# Altium schematic symbol library Smart Ring Components.SchLib: 52 symbols
Pins are listed as number, name and electrical type; pins without a type are passive.

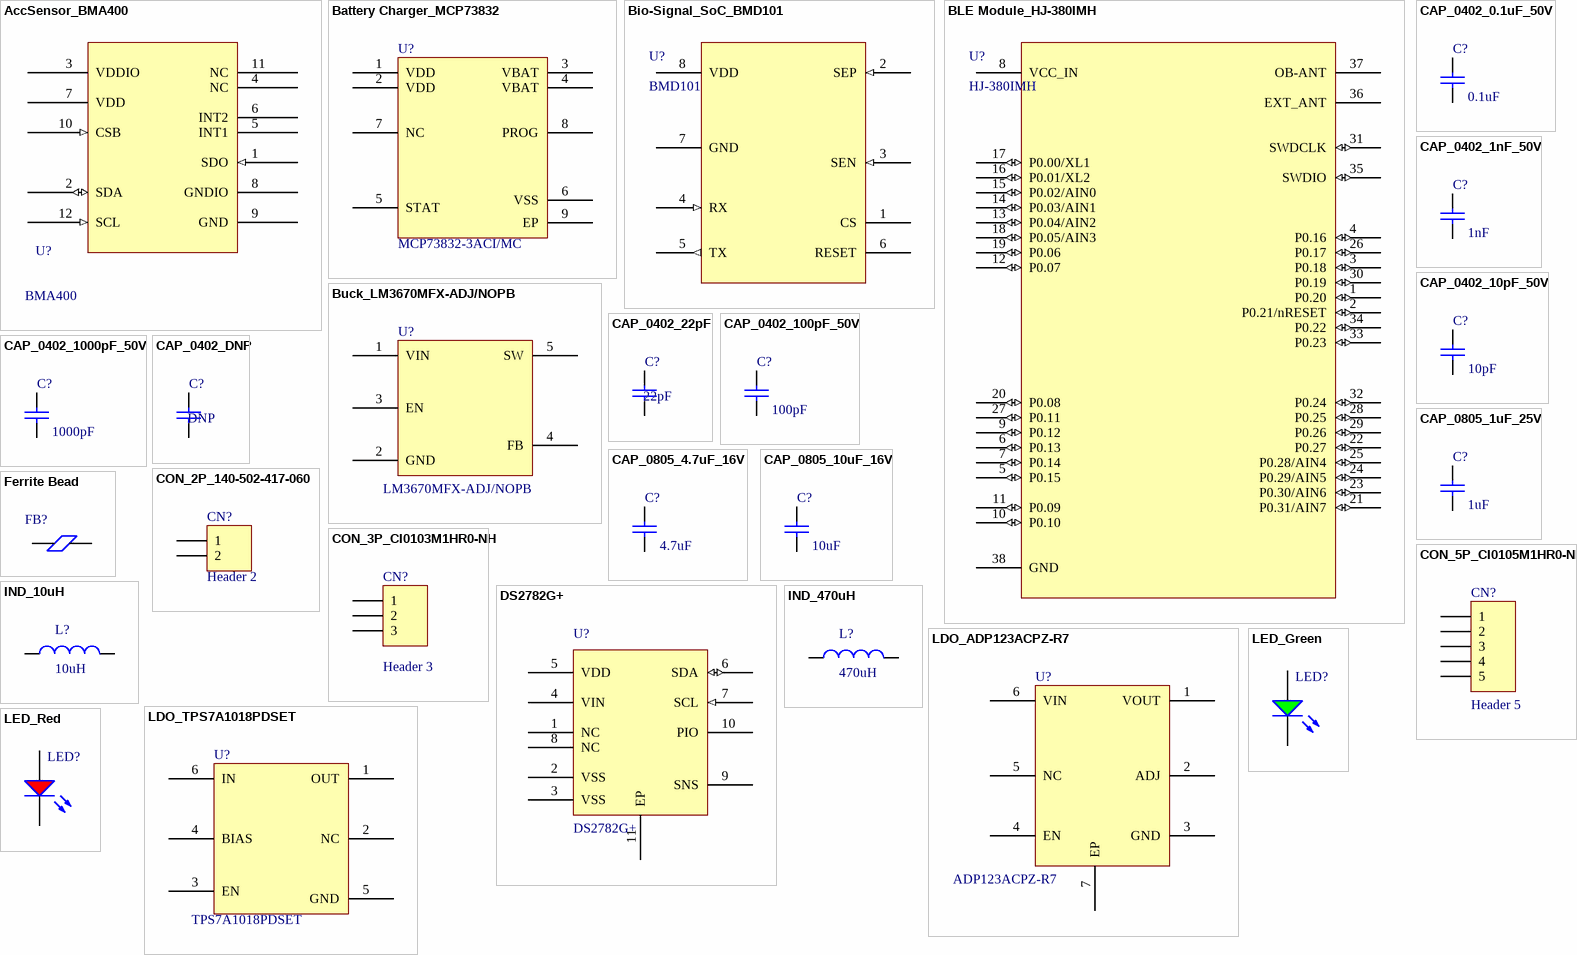
[diagram p0: symbols AccSensor_BMA400 to LED_Red]

## AccSensor_BMA400
designator U?, comment BMA400
ACCELEROMETER 2-16G 12LGA; MFR: Bosch; Value: BMA400; MPN: BMA400
footprint BMA400
pins: 1 SDO (in), 2 SDA (io), 3 VDDIO (power), 4 NC, 5 INT1, 6 INT2, 7 VDD (power), 8 GNDIO (power), 9 GND (power), 10 CSB (in), 11 NC, 12 SCL (in)

## Battery Charger_MCP73832
designator U?  MPN: MCP73832-3ACI/MC  (hidden comment: *)
IC BATT CONTRL LI-ION 1CELL 8DFN; MFR: Microchip; Package: 8-DFN (2x3)
footprint MCP73832-3ACI/MC
pins: 1 VDD (power), 2 VDD (power), 3 VBAT (power), 4 VBAT (power), 5 STAT, 6 VSS (power), 7 NC, 8 PROG, 9 EP (power)

## Bio-Signal_SoC_BMD101
designator U?, comment BMD101
Mixed Signal SoC with Integrated AFE, DSP functions and UART; MFR: NeuroSky; MPN: BMD101
footprint BMD101
pins: 1 CS, 2 SEP (in), 3 SEN (in), 4 RX (in), 5 TX (out), 6 RESET, 7 GND (power), 8 VDD (power)

## BLE Module_HJ-380IMH
designator U?, comment HJ-380IMH
Chip-scale high performance ultra small (5.5mmX6mm) ultra low power / Bluetooth 5.0 module based on Nordic nRF52832; MFR: TangShan HongJia Electronic Technology Co., Ltd; MPN: HJ-380IMH
pins: 1 P0.20 (io), 2 P0.21/nRESET (io), 3 P0.18 (io), 4 P0.16 (io), 5 P0.15 (io), 6 P0.13 (io), 7 P0.14 (io), 8 VCC_IN (power), 9 P0.12 (io), 10 P0.10 (io), 11 P0.09 (io), 12 P0.07 (io), 13 P0.04/AIN2 (io), 14 P0.03/AIN1 (io), 15 P0.02/AIN0 (io), 16 P0.01/XL2 (io), 17 P0.00/XL1 (io), 18 P0.05/AIN3 (io), 19 P0.06 (io), 20 P0.08 (io), 21 P0.31/AIN7 (io), 22 P0.27 (io), 23 P0.30/AIN6 (io), 24 P0.29/AIN5 (io), 25 P0.28/AIN4 (io), 26 P0.17 (io), 27 P0.11 (io), 28 P0.25 (io), 29 P0.26 (io), 30 P0.19 (io), 31 SWDCLK (io), 32 P0.24 (io), 33 P0.23 (io), 34 P0.22 (io), 35 SWDIO (io), 36 EXT_ANT, 37 OB-ANT, 38 GND (power)

## Buck_LM3670MFX-ADJ/NOPB
designator U?, comment LM3670MFX-ADJ/NOPB
IC REG BUCK ADJ 350MA SOT23-5; MFR: Texas Instruments; Package: SOT-23-5; MPN: LM3670MFX-ADJ/NOPB
footprint LM3670MFX-ADJ/NOPB
pins: 1 VIN (power), 2 GND (power), 3 EN, 4 FB (power), 5 SW

## CAP_0402_0.1uF_50V
designator C?, comment 0.1uF
CAP CER 0.1UF 50V X7R 0402; Alternate MFR: Samsung Electro-Mechanics; Alternate MPN: CL05B104KB54PNC; Package: 0402; Value: 0.1uF
footprint 0402C
pins: 1, 2

## CAP_0402_1nF_50V
designator C?, comment 1nF
CAP CER 1000PF 50V X7R 0402; Alternate MFR: TDK Corporation; Alternate MPN: C1005X7R1H102K050BA; Package: 0402; Value: 1nF
footprint 0402C
pins: 1, 2

## CAP_0402_10pF_50V
designator C?, comment 10pF
CAP CER 10PF 50V C0G/NP0 0402; Alternate MFR: Murata Electronics; Alternate MPN: GRT1555C1H100JA02J; Package: 0402; Value: 10pF
footprint 0402C
pins: 1, 2

## CAP_0402_22pF
designator C?, comment 22pF
CAP CER 22PF 50V C0G 0402; MFR: Generic; Alternate MFR: TDK Corporation; Alternate MPN: C1005C0G1H220J050BA; MPN: Generic; Package: 0402; Value: 22pF
footprint 0402C
pins: 1, 2

## CAP_0402_100pF_50V
designator C?, comment 100pF
CAP CER 100PF 50V C0G 0402; Alternate MFR: TDK Corporation; Alternate MPN: C1005C0G1H101J050BA; Package: 0402; Value: 100pF
footprint 0402C
pins: 1, 2

## CAP_0402_1000pF_50V
designator C?, comment 1000pF
CAP CER 1000PF 50V X7R 0402; Alternate MFR: TDK Corporation; Alternate MPN: C1005X7R1H102K050BA; Package: 0402; Value: 1000pF
footprint 0402C
pins: 1, 2

## CAP_0402_DNP
designator C?, comment DNP
CAP CER DNP 0402; MFR: Generic; MPN: Generic; Package: 0402; Value: DNP
footprint 0402C
pins: 1, 2

## CAP_0805_1uF_25V
designator C?, comment 1uF
CAP CER 1UF 25V X7R 0805; Alternate MFR: Würth Elektronik; Alternate MPN: 885012207078; Package: 0805; Value: 1uF
footprint 0805C
pins: 1, 2

## CAP_0805_4.7uF_16V
designator C?, comment 4.7uF
CAP CER MLCC 4.7uF X7R 16V  0805; Alternate MFR: Murata Electronics; Alternate MPN: GRM21BR71C475ME51K; Package: 0805; Value: 4.7uF
footprint 0805C
pins: 1, 2

## CAP_0805_10uF_16V
designator C?, comment 10uF
CAP CER 10UF 16V X7R 0805; Alternate MFR: Taiyo Yuden; Alternate MPN: EMK212BB7106MG-T; Package: 0805; Value: 10uF
footprint 0805C
pins: 1, 2

## CON_2P_140-502-417-060
designator CN?, comment Header 2
2.0MM PITCH CONNECTOR WITH 2 SUR; MFR: EDAC Inc.; MPN: 140-502-417-060
footprint 140-502-417-060
signal-integrity model Connector
pins: 1, 2

## CON_3P_CI0103M1HR0-NH
designator CN?, comment Header 3
3 POS 2.00MM(.079) SINGLE ROW SM; MFR: Cvilux USA; MPN: CI0103M1HR0-NH
footprint CI0103M1HR0-NH
signal-integrity model Connector
pins: 1, 2, 3

## CON_5P_CI0105M1HR0-NH
designator CN?, comment Header 5
5 POS 2.00MM(.079) SINGLE ROW SM; MFR: Cvilux USA; MPN: CI0105M1HR0-NH
footprint CI0105M1HR0-NH
signal-integrity model Connector
pins: 1, 2, 3, 4, 5

## DS2782G+
designator U?  MPN: DS2782G+
IC BATT MON LI-ION 1CELL 10TDFN; MFR: Maxim Integrated; Package: 10-TDFN (3x4)
footprint DS2782G+
pins: 1 NC, 2 VSS (power), 3 VSS (power), 4 VIN (power), 5 VDD (power), 6 SDA (io), 7 SCL (in), 8 NC, 9 SNS, 10 PIO, 11 EP (power)

## Ferrite Bead
designator FB?  (value not drawn)
CHIP BEAD 600 OHM 0402 300mA; MFR: Walsin; MPN: WLBD1005K2U601TP; Package: 0402
footprint 0402R
pins: 1 VREF, 2 VREF

## IND_10uH
designator L?, comment 10uH
WE-PMI POWER MULTILAYER INDUCTOR; MFR: Würth Elektronik; MPN: 74479777310A; Package: 0805; Alternate MFR: *; Alternate MPN: *; Value: 10uH
footprint NR6028T3R0N
pins: 1, 2

## IND_470uH
designator L?, comment 470uH
FIXED IND 470UH 105MA 14.3OHM SM; MFR: Bourns; MPN: SDR0302-471KL; Package: 0302; Alternate MFR: *; Alternate MPN: *; Value: 470uH
footprint NR6028T3R0N
pins: 1, 2

## LDO_ADP123ACPZ-R7
designator U?, comment ADP123ACPZ-R7
IC REG LIN POS ADJ 300MA 6LFCSP; MFR: Analog Devices; Package: 6-LFCSP-UD (2x2); MPN: ADP123ACPZ-R7
footprint ADP123ACPZ-R7
pins: 1 VOUT, 2 ADJ (power), 3 GND (power), 4 EN (power), 5 NC, 6 VIN (power), 7 EP (power)

## LDO_TPS7A1018PDSET
designator U?, comment TPS7A1018PDSET
IC REG LINEAR 1.8V 300MA 6WSON; MFR: TI; Package: 6-WSON (1.5x1.5); MPN: TPS7A1018PDSET
footprint TPS7A1018PDSET
pins: 1 OUT (power), 2 NC, 3 EN, 4 BIAS, 5 GND (power), 6 IN (power)

## LED_Green
designator LED?
Red LED; MFR: Kingbright; Alternate MFR: Lite-On; Alternate MPN: LTST-C281KGKT; MPN: APG1005CGC-T; Value: Green; Forward Voltage: 2V; Package: 0402
footprint 0402R
pins: 1 A, 2 K

## LED_Red
designator LED?, comment 5988A10107F  (value not drawn)
Red LED; MFR: Dialight; Forward Voltage: 1.6V; Value: Red; Package: 0402; MPN: 5988A10107F
footprint 0402R
pins: 1 A, 2 K

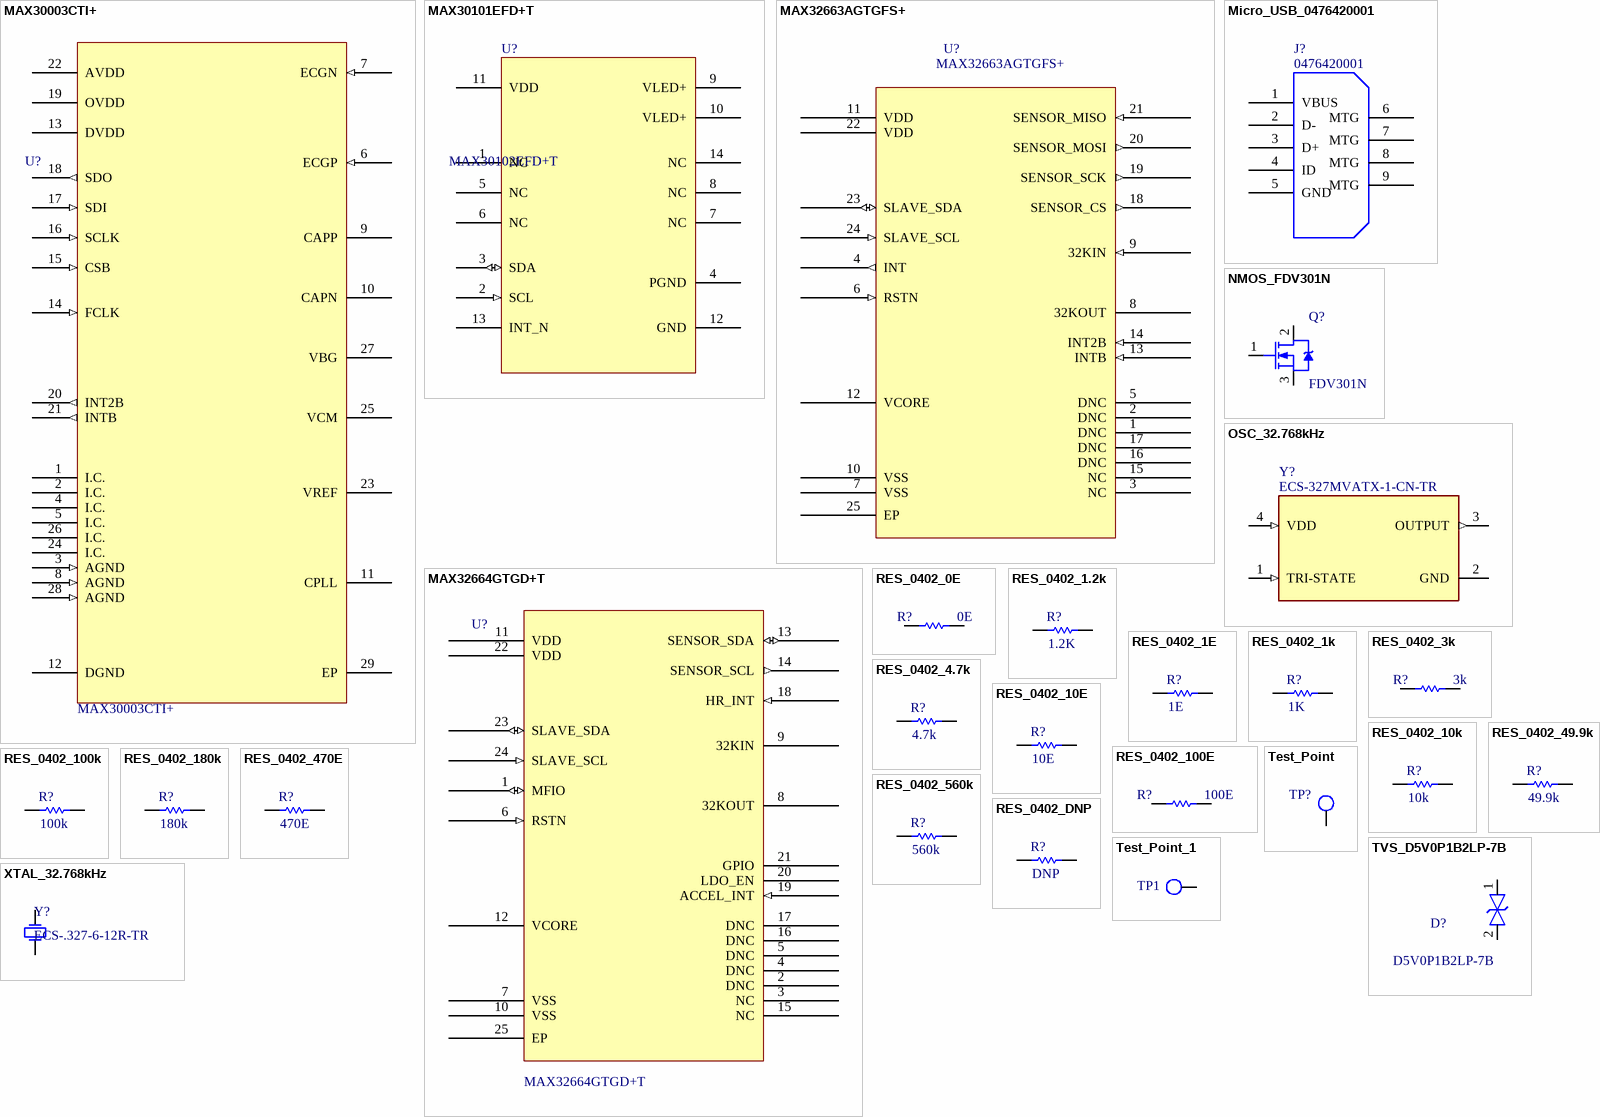
[diagram p1: symbols MAX30003CTI+ to XTAL_32.768kHz]

## MAX30003CTI+
designator U?
Analog Front End - AFE Bio Potential AFE; MFR: Maxim Integrated; Package: 28-TQFN (5X5); MPN: MAX30003CTI+
footprint MAX30003CTI+
pins: 1 I.C., 2 I.C., 3 AGND (in), 4 I.C., 5 I.C., 6 ECGP (in), 7 ECGN (in), 8 AGND (in), 9 CAPP, 10 CAPN, 11 CPLL, 12 DGND (power), 13 DVDD (power), 14 FCLK (in), 15 CSB (in), 16 SCLK (in), 17 SDI (in), 18 SDO (out), 19 OVDD (power), 20 INT2B (out), 21 INTB (out), 22 AVDD (power), 23 VREF, 24 I.C., 25 VCM, 26 I.C. (power), 27 VBG, 28 AGND (in), 29 EP (power)

## MAX30101EFD+T
designator U?, comment MAX30102EFD+T
Biometric Sensors Oximeter/Heart Rate Integrated Optical Sensor; MFR: Maxim Integrated; Value: 14 OESIP; MPN: MAX30102EFD+T
footprint MAX30101EFD+T
pins: 1 NC, 2 SCL (in), 3 SDA (io), 4 PGND (power), 5 NC, 6 NC, 7 NC, 8 NC, 9 VLED+ (power), 10 VLED+ (power), 11 VDD (power), 12 GND (power), 13 INT_N, 14 NC

## MAX32663AGTGFS+
designator U?
SENSOR HUB W/ B-SECUR'S FULL HEA; MFR: Maxim Integrated; Package: 24-TQFN (3x3); MPN: MAX32663AGTGFS+
footprint MAX32663AGTGFS+
pins: 1 DNC, 2 DNC, 3 NC, 4 INT (out), 5 DNC, 6 RSTN (in), 7 VSS (power), 8 32KOUT, 9 32KIN (in), 10 VSS (power), 11 VDD (power), 12 VCORE (power), 13 INTB (in), 14 INT2B (in), 15 NC, 16 DNC, 17 DNC, 18 SENSOR_CS (out), 19 SENSOR_SCK (out), 20 SENSOR_MOSI (out), 21 SENSOR_MISO (in), 22 VDD (power), 23 SLAVE_SDA (io), 24 SLAVE_SCL (in), 25 EP (power)

## MAX32664GTGD+T
designator U?
Biometric Sensors CORTEX M4F 96MHZ ME11, TQFN 3X3; MFR: Maxim Integrated; Package: 24-TQFN (3x3); MPN: MAX32664GTGD+T
footprint MAX32664GTGA+T
pins: 1 MFIO (io), 2 DNC, 3 NC, 4 DNC, 5 DNC, 6 RSTN (in), 7 VSS (power), 8 32KOUT, 9 32KIN, 10 VSS (power), 11 VDD (power), 12 VCORE (power), 13 SENSOR_SDA (io), 14 SENSOR_SCL (out), 15 NC, 16 DNC, 17 DNC, 18 HR_INT (in), 19 ACCEL_INT (in), 20 LDO_EN, 21 GPIO, 22 VDD (power), 23 SLAVE_SDA (io), 24 SLAVE_SCL (in), 25 EP (power)

## Micro_USB_0476420001
designator J?, comment 0476420001
CONN RCPT MICRO USB B 5POS SMD; Alternate MFR: Molex; Alternate MPN: 0476420001
footprint MOLEX_476420001
pins: 1 VBUS, 2 D-, 3 D+, 4 ID, 5 GND, 6 MTG, 7 MTG, 8 MTG, 9 MTG

## NMOS_FDV301N
designator Q?, comment FDV301N
MOSFET N-CH 25V 220MA SOT23; MFR: onsemi; ComponentLink1Description: Manufacturer Link; ComponentLink1URL: http://www.irf.com/; MPN: FDV301N; Package: SOT23
footprint SOT_23
simulation model IRF1010 (Spice Subcircuit)
pins: 1 G, 2 D, 3 S

## OSC_32.768kHz
designator Y?, comment ECS-327MVATX-1-CN-TR
XTAL OSC XO 32.768KHZ SMD; MFR: ECS Inc.; MPN: ECS-327MVATX-1-CN-TR; Package: 4-SMD, No Lead; Value: *
footprint ECS-327MVATX-1-CN-TR
pins: 1 TRI-STATE (in), 2 GND (power), 3 OUTPUT (out), 4 VDD (in)

## RES_0402_0E
designator R?, comment 0E
RES 0 OHM JUMPER 1/16W 0402; MFR: Generic; Alternate MFR: YAGEO; Alternate MPN: AC0402JR-130RL; MPN: Generic; Package: 0402; Value: 0E
footprint 0402R
pins: 1, 2

## RES_0402_1.2k
designator R?, comment 1.2K
RES 1.2K OHM 1% 1/16W 0402; MFR: Generic; Alternate MFR: YAGEO; Alternate MPN: RC0402FR-071K2L; MPN: Generic; Package: 0402; Value: 1.2K
footprint 0402R
pins: 1, 2

## RES_0402_1E
designator R?, comment 1E
RES 1 OHM 1% 1/16W 0402; MFR: Generic; Alternate MFR: YAGEO; Alternate MPN: RC0402FR-071RL; MPN: Generic; Package: 0402; Value: 1E
footprint 0402R
pins: 1, 2

## RES_0402_1k
designator R?, comment 1K
RES SMD 1K OHM 1% 1/16W 0402; MFR: Generic; Alternate MFR: YAGEO; Alternate MPN: AC0402FR-071KL; MPN: Generic; Package: 0402; Value: 1K
footprint 0402R
pins: 1, 2

## RES_0402_3k
designator R?, comment 3k
RES SMD 3K OHM 0.1% 1/16W 0402; MFR: Vishay; MPN: MCS04020D3001BE000; Alternate MFR: Panasonic; Alternate MPN: ERA-2ARB302X; Package: 0402; Value: 3k
footprint 0402R
pins: 1, 2

## RES_0402_4.7k
designator R?, comment 4.7k
RES 4.7K OHM 1% 1/16W 0402; MFR: Generic; Alternate MFR: YAGEO; Alternate MPN: RC0402FR-134K7L; MPN: Generic; Package: 0402; Value: 4.7k
footprint 0402R
pins: 1, 2

## RES_0402_10E
designator R?, comment 10E
RES 10 OHM 1% 1/16W 0402; MFR: Generic; Alternate MFR: YAGEO; Alternate MPN: RC0402FR-1310RL; MPN: Generic; Package: 0402; Value: 10E
footprint 0402R
pins: 1, 2

## RES_0402_10k
designator R?, comment 10k
RES SMD 10K OHM 1% 1/16W 0402; MFR: Generic; Alternate MFR: YAGEO; Alternate MPN: AF0402FR-0710KL; MPN: Generic; Package: 0402; Value: 10k
footprint 0402R
pins: 1, 2

## RES_0402_49.9k
designator R?, comment 49.9k
RES 49.9K OHM 1% 1/16W 0402; MFR: Generic; Alternate MFR: YAGEO; Alternate MPN: RC0402FR-0749K9L; MPN: Generic; Package: 0402; Value: 49.9k
footprint 0402R
pins: 1, 2

## RES_0402_100E
designator R?, comment 100E
RES 100 OHM 1% 1/16W 0402; MFR: Generic; Alternate MFR: YAGEO; Alternate MPN: RC0402FR-13100RL; MPN: Generic; Package: 0402; Value: 100E
footprint 0402R
pins: 1, 2

## RES_0402_100k
designator R?, comment 100k
RES 100K OHM 1% 1/16W 0402; MFR: Generic; Alternate MFR: YAGEO; Alternate MPN: RC0402FR-07100KP; MPN: Generic; Package: 0402; Value: 100k
footprint 0402R
pins: 1, 2

## RES_0402_180k
designator R?, comment 180k
RES 180K OHM 1% 1/16W 0402; MFR: Generic; Alternate MFR: YAGEO; Alternate MPN: RC0402FR-07180KL; MPN: Generic; Package: 0402; Value: 180k
footprint 0402R
pins: 1, 2

## RES_0402_470E
designator R?, comment 470E
RES 470 OHM 1% 1/16W 0402; MFR: Generic; Alternate MFR: YAGEO; Alternate MPN: RC0402FR-07470RL; MPN: Generic; Package: 0402; Value: 470E
footprint 0402R
pins: 1, 2

## RES_0402_560k
designator R?, comment 560k
RES 560K OHM 1% 1/16W 0402; MFR: Generic; Alternate MFR: YAGEO; Alternate MPN: RC0402FR-07560KL; MPN: Generic; Package: 0402; Value: 560k
footprint 0402R
pins: 1, 2

## RES_0402_DNP
designator R?, comment DNP
RES DNP 0402; Package: 0402; Value: DNP
footprint 0402R
pins: 1, 2

## Test_Point
designator TP?  (value not drawn)
pins: 1

## Test_Point_1
designator TP1, comment Test_Point  (value not drawn)
footprint TP_SMD
pins: 1

## TVS_D5V0P1B2LP-7B
designator D?, comment D5V0P1B2LP-7B
TVS DIODE 5.5VWM 13VC DFN1006-2; MFR: Diodes Incorporated; MPN: D5V0P1B2LP-7B; Package: X1-DFN1006-2
footprint D5V0P1B2LP-7B
pins: 1, 2

## XTAL_32.768kHz
designator Y?, comment ECS-.327-6-12R-TR
CRYSTAL 32.7680KHZ 6PF SMD; MFR: ECS Inc.; Value: 32.768kHz; MPN: ECS-.327-6-12R-TR; Capacitance: 6pF
footprint 1206M
footprint ECS-.327-6-12R-TR
pins: 1 OSC1, 2 OSC2